# EAGLE library part 1825057-7 (library Switch)
SWITCH SLIDE DIP SPST 100MA 24V Manufacturer's datasheet <https://www.te.com/commerce/DocumentDelivery/DDEController?Action=srchrtrv&DocNm=1825057&DocType=Customer+Drawing&DocLang=English>
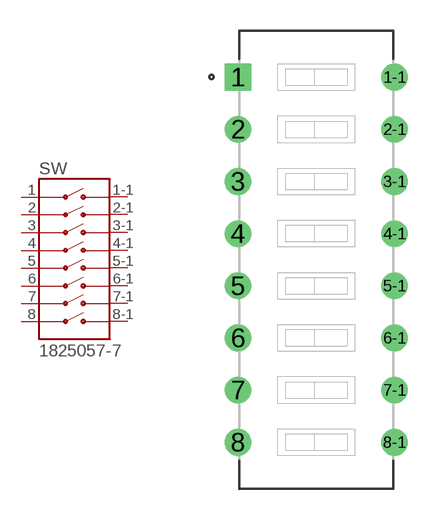
[diagram p3: symbol with the pads of 1825057-7; footprint 1825057-7]

Designator prefix SW

## 1825057-7 (CREATED_BY: PCBLayout.com; DIGIKEY_PART_NUMBER: 450-1366-ND; MANUFACTURER: TE Connectivity ALCOSWITCH Switches; MPN: 1825057-7)  [1825057-7]
1  1  pas
1-1  1-1  pas
2  2  pas
2-1  2-1  pas
3  3  pas
3-1  3-1  pas
4  4  pas
4-1  4-1  pas
5  5  pas
5-1  5-1  pas
6  6  pas
6-1  6-1  pas
7  7  pas
7-1  7-1  pas
8  8  pas
8-1  8-1  pas

## Footprint 1825057-7 (pad centres in mm)
drill 0.79 square: 1 -3.81,8.89
drill 0.79: 1-1 3.81,8.89; 2 -3.81,6.35; 2-1 3.81,6.35; 3 -3.81,3.81; 3-1 3.81,3.81; 4 -3.81,1.27; 4-1 3.81,1.27; 5 -3.81,-1.27; 5-1 3.81,-1.27; 6 -3.81,-3.81; 6-1 3.81,-3.81; 7 -3.81,-6.35; 7-1 3.81,-6.35; 8 -3.81,-8.89; 8-1 3.81,-8.89